# Altium integrated library Atmel Security and Smart Card ICs.IntLib: 140 symbols (part 4 of 5)
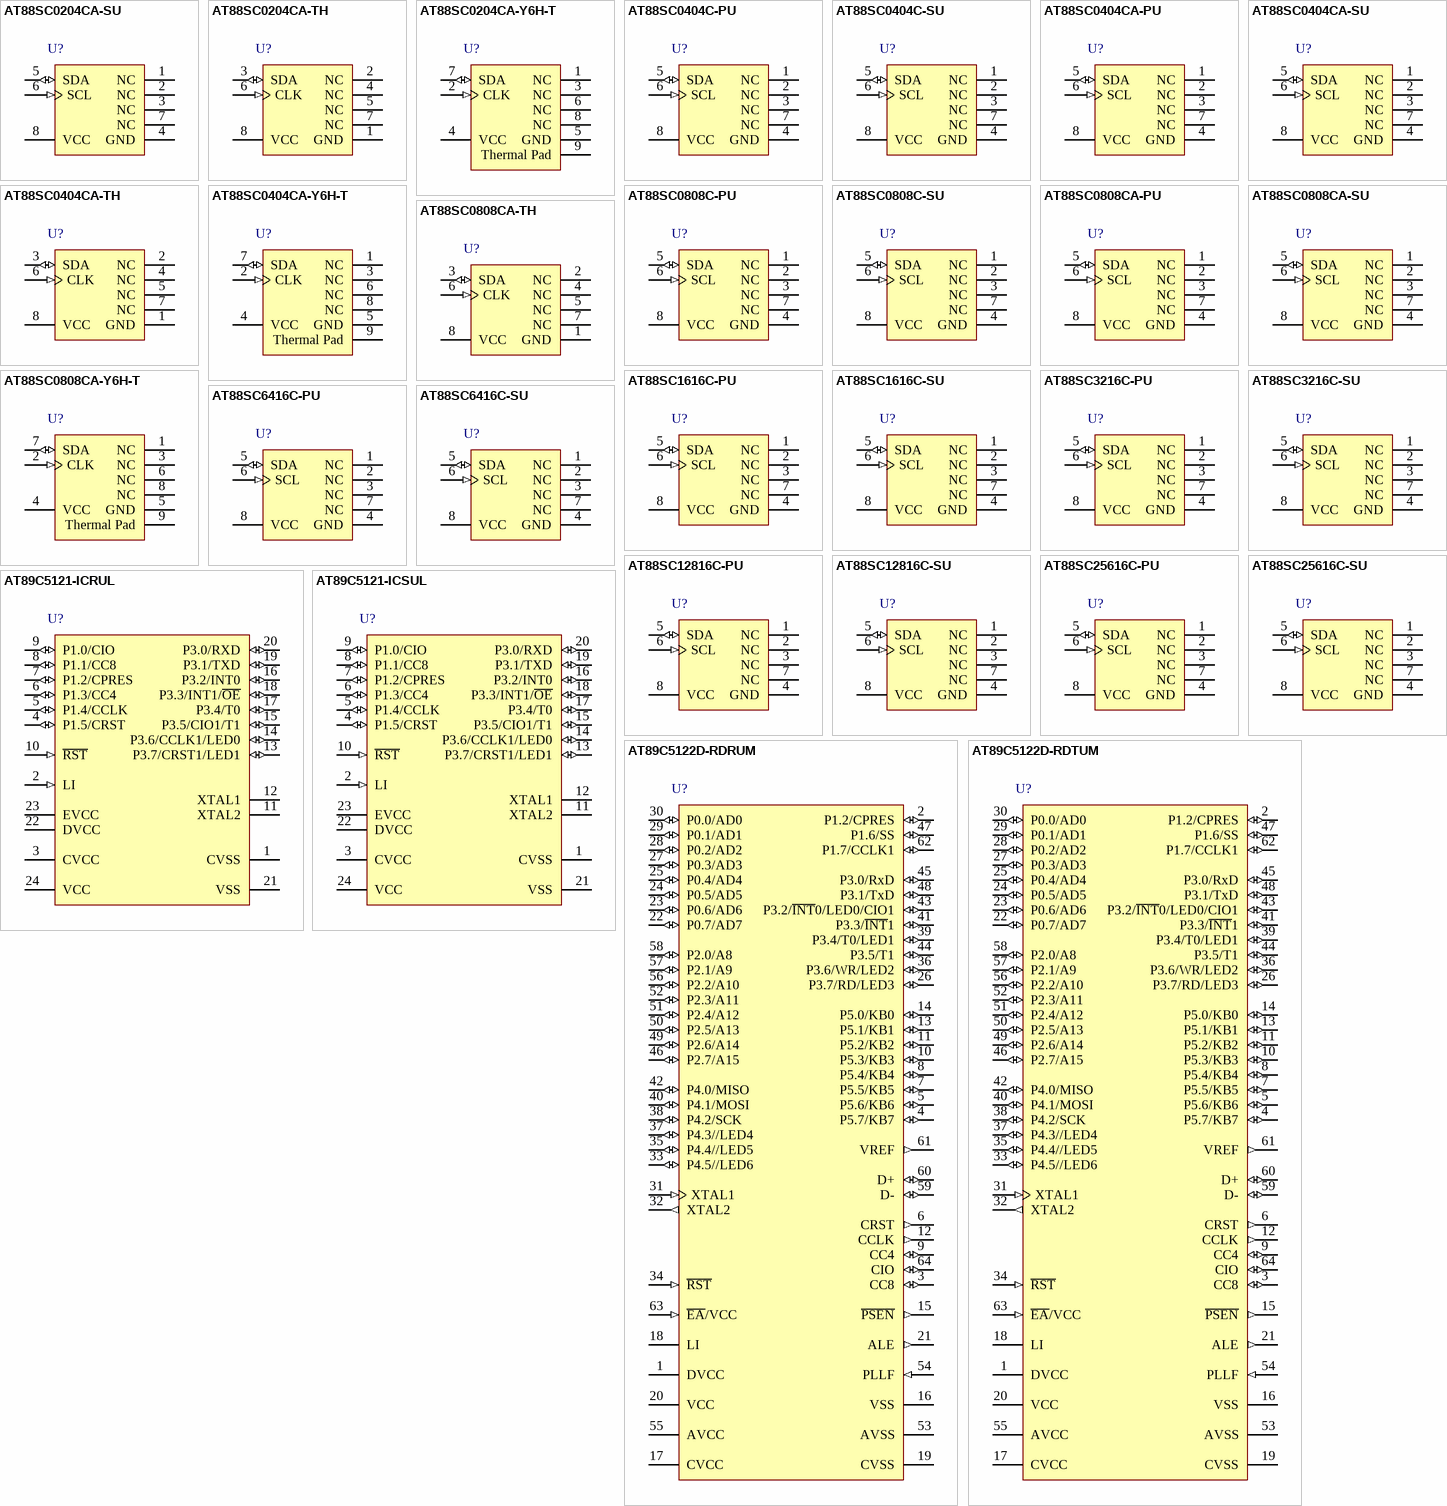
[diagram p11: symbols AT88SC0204CA-SU to AT89C5122D-RDTUM]

## AT88SC6416C-SU
designator U?
AT88SC6416C CryptoMemory®: 64-Kbit User Memory with Authentication and Encryption, Industrial (-40 to 85 degC), 8-Pin SOIC Pkg, Pb-Free; Published: 20-Sep-2010; DatasheetVersion: revK, Aug-2009; PackageVersion: revC, Mar-2005; PackageReference: 8S1; Publisher: Altium Limited; PackageDescription: 8-Lead (0.150" Wide Body), Plastic Gull Wing Small Outline (JEDEC SOIC); Supplier 1: Digi-Key; Supplier Part Number 1: AT88SC6416C-SU-ND; Supplier 2: Mouser; Supplier Part Number 2: 556-A88SC6416CSU; Code_JEDEC: MS-012-AA; Code_IPC: SOIC127P600-8; ComponentLink1Description: Manufacturer Link; ComponentLink1URL: http://www.atmel.com/products/overview_security.asp?; ComponentLink2Description: Datasheet; ComponentLink2URL: http://www.atmel.com/dyn/resources/prod_documents/doc5211.pdf; ComponentLink3Description: Atmel.com Home; ComponentLink3URL: http://www.atmel.com
footprint 8S1_N (SOIC, 8-Leads, Body 4.9x3.9mm, Pitch 1.27mm, IPC Medium Density)
footprint 8S1_L (SOIC, 8-Leads, Body 4.9x3.9mm, Pitch 1.27mm, IPC High Density)
footprint 8S1_M (SOIC, 8-Leads, Body 4.9x3.9mm, Pitch 1.27mm, IPC Low Density)
pins: 1 NC, 2 NC, 3 NC, 4 GND (power), 5 SDA (io), 6 SCL (in), 7 NC, 8 VCC (power)

## AT88SC12816C-PU
designator U?
AT88SC12816C CryptoMemory®: 128-Kbit User Memory with Authentication and Encryption, Industrial (-40 to 85 degC), 8-Pin PDIP Pkg, Pb-Free; Published: 20-Sep-2010; DatasheetVersion: revK, Aug-2009; PackageVersion: revB, Jan-2002; PackageReference: 8P3; Publisher: Altium Limited; PackageDescription: 8-Lead, 0.300" Wide Body, Plastic Dual In-Line Package (PDIP); Supplier 1: Digi-Key; Supplier Part Number 1: AT88SC12816C-PU-ND; Supplier 2: Mouser; Supplier Part Number 2: 556-A88SC12816C-PU; Code_JEDEC: MS-001-BA; ComponentLink1Description: Manufacturer Link; ComponentLink1URL: http://www.atmel.com/products/overview_security.asp?; ComponentLink2Description: Datasheet; ComponentLink2URL: http://www.atmel.com/dyn/resources/prod_documents/doc5211.pdf; ComponentLink3Description: Atmel.com Home; ComponentLink3URL: http://www.atmel.com
footprint 8P3 (DIP, 8-Leads, Row Spacing 7.62mm, Pitch 2.54mm, Body 9.59x6.61mm)
pins: 1 NC, 2 NC, 3 NC, 4 GND (power), 5 SDA (io), 6 SCL (in), 7 NC, 8 VCC (power)

## AT88SC12816C-SU
designator U?
AT88SC12816C CryptoMemory®: 128-Kbit User Memory with Authentication and Encryption, Industrial (-40 to 85 degC), 8-Pin SOIC Pkg, Pb-Free; Published: 20-Sep-2010; DatasheetVersion: revK, Aug-2009; PackageVersion: revC, Mar-2005; PackageReference: 8S1; Publisher: Altium Limited; PackageDescription: 8-Lead (0.150" Wide Body), Plastic Gull Wing Small Outline (JEDEC SOIC); Supplier 1: Digi-Key; Supplier Part Number 1: AT88SC12816C-SU-ND; Supplier 2: Mouser; Supplier Part Number 2: 556-A88SC12816CSU; Code_JEDEC: MS-012-AA; Code_IPC: SOIC127P600-8; ComponentLink1Description: Manufacturer Link; ComponentLink1URL: http://www.atmel.com/products/overview_security.asp?; ComponentLink2Description: Datasheet; ComponentLink2URL: http://www.atmel.com/dyn/resources/prod_documents/doc5211.pdf; ComponentLink3Description: Atmel.com Home; ComponentLink3URL: http://www.atmel.com
footprint 8S1_N (SOIC, 8-Leads, Body 4.9x3.9mm, Pitch 1.27mm, IPC Medium Density)
footprint 8S1_L (SOIC, 8-Leads, Body 4.9x3.9mm, Pitch 1.27mm, IPC High Density)
footprint 8S1_M (SOIC, 8-Leads, Body 4.9x3.9mm, Pitch 1.27mm, IPC Low Density)
pins: 1 NC, 2 NC, 3 NC, 4 GND (power), 5 SDA (io), 6 SCL (in), 7 NC, 8 VCC (power)

## AT88SC25616C-PU
designator U?
AT88SC25616C CryptoMemory®: 256-Kbit User Memory with Authentication and Encryption, Industrial (-40 to 85 degC), 8-Pin PDIP Pkg, Pb-Free; Published: 20-Sep-2010; DatasheetVersion: revK, Aug-2009; PackageVersion: revB, Jan-2002; PackageReference: 8P3; Publisher: Altium Limited; PackageDescription: 8-Lead, 0.300" Wide Body, Plastic Dual In-Line Package (PDIP); Supplier 1: Digi-Key; Supplier Part Number 1: AT88SC25616C-PU-ND; Supplier 2: Mouser; Supplier Part Number 2: 556-A88SC25616C-PU; Code_JEDEC: MS-001-BA; ComponentLink1Description: Manufacturer Link; ComponentLink1URL: http://www.atmel.com/products/overview_security.asp?; ComponentLink2Description: Datasheet; ComponentLink2URL: http://www.atmel.com/dyn/resources/prod_documents/doc5211.pdf; ComponentLink3Description: Atmel.com Home; ComponentLink3URL: http://www.atmel.com
footprint 8P3 (DIP, 8-Leads, Row Spacing 7.62mm, Pitch 2.54mm, Body 9.59x6.61mm)
pins: 1 NC, 2 NC, 3 NC, 4 GND (power), 5 SDA (io), 6 SCL (in), 7 NC, 8 VCC (power)

## AT88SC25616C-SU
designator U?
AT88SC25616C CryptoMemory®: 256-Kbit User Memory with Authentication and Encryption, Industrial (-40 to 85 degC), 8-Pin SOIC Pkg, Pb-Free; Published: 20-Sep-2010; DatasheetVersion: revK, Aug-2009; PackageVersion: revC, Mar-2005; PackageReference: 8S1; Publisher: Altium Limited; PackageDescription: 8-Lead (0.150" Wide Body), Plastic Gull Wing Small Outline (JEDEC SOIC); Supplier 1: Digi-Key; Supplier Part Number 1: AT88SC25616C-SU-ND; Supplier 2: Mouser; Supplier Part Number 2: 556-A88SC25616CSU; Code_JEDEC: MS-012-AA; Code_IPC: SOIC127P600-8; ComponentLink1Description: Manufacturer Link; ComponentLink1URL: http://www.atmel.com/products/overview_security.asp?; ComponentLink2Description: Datasheet; ComponentLink2URL: http://www.atmel.com/dyn/resources/prod_documents/doc5211.pdf; ComponentLink3Description: Atmel.com Home; ComponentLink3URL: http://www.atmel.com
footprint 8S1_N (SOIC, 8-Leads, Body 4.9x3.9mm, Pitch 1.27mm, IPC Medium Density)
footprint 8S1_L (SOIC, 8-Leads, Body 4.9x3.9mm, Pitch 1.27mm, IPC High Density)
footprint 8S1_M (SOIC, 8-Leads, Body 4.9x3.9mm, Pitch 1.27mm, IPC Low Density)
pins: 1 NC, 2 NC, 3 NC, 4 GND (power), 5 SDA (io), 6 SCL (in), 7 NC, 8 VCC (power)

## AT89C5121-ICRUL
designator U?
8-bit Microcontroller with Multiprotocol Smart Card Interface, Industrial, 24-Pin SOIC Pkg, Tape and Reel, Pb-Free; Published: 20-Sep-2010; DatasheetVersion: revG, July-2006; PackageVersion: 2006; PackageReference: SSOP24; Publisher: Altium Limited; PackageDescription: 24-Pin Shrink Small Outline Package, 8.2 x 5.3 mm Body, 0.65 mm Pitch; Code_JEDEC: MO-150-AG; Code_IPC: SOP65P780-24; ComponentLink1Description: Manufacturer Link; ComponentLink1URL: http://www.atmel.com/products/overview_security.asp?; ComponentLink2Description: Datasheet; ComponentLink2URL: http://www.atmel.com/dyn/resources/prod_documents/doc4164.pdf; ComponentLink3Description: Atmel.com Home; ComponentLink3URL: http://www.atmel.com
footprint SSOP24_N (SOP, 24-Leads, Body 8.2x5.3mm, Pitch 0.65mm, IPC Medium Density)
footprint SSOP24_L (SOP, 24-Leads, Body 8.2x5.3mm, Pitch 0.65mm, IPC High Density)
footprint SSOP24_M (SOP, 24-Leads, Body 8.2x5.3mm, Pitch 0.65mm, IPC Low Density)
pins: 1 CVSS (power), 2 LI (in), 3 CVCC (power), 4 P1.5/CRST (io), 5 P1.4/CCLK (io), 6 P1.3/CC4 (io), 7 P1.2/CPRES (io), 8 P1.1/CC8 (io), 9 P1.0/CIO (io), 10 ~{RST} (in), 11 XTAL2, 12 XTAL1, 13 P3.7/CRST1/LED1 (io), 14 P3.6/CCLK1/LED0 (io), 15 P3.5/CIO1/T1 (io), 16 P3.2/INT0 (io), 17 P3.4/T0 (io), 18 P3.3/INT1/~{OE} (io), 19 P3.1/TXD (io), 20 P3.0/RXD (io), 21 VSS (power), 22 DVCC (power), 23 EVCC (power), 24 VCC (power)

## AT89C5121-ICSUL
designator U?
8-bit Microcontroller with Multiprotocol Smart Card Interface, Industrial, 24-Pin SOIC Pkg, Stick, Pb-Free; Published: 20-Sep-2010; DatasheetVersion: revG, July-2006; PackageVersion: 2006; PackageReference: SSOP24; Publisher: Altium Limited; PackageDescription: 24-Pin Shrink Small Outline Package, 8.2 x 5.3 mm Body, 0.65 mm Pitch; Supplier 1: Digi-Key; Supplier Part Number 1: AT89C5121-ICSUL-ND; Supplier 2: Mouser; Supplier Part Number 2: 556-A89C5121-ICSUL; Code_JEDEC: MO-150-AG; Code_IPC: SOP65P780-24; ComponentLink1Description: Manufacturer Link; ComponentLink1URL: http://www.atmel.com/products/overview_security.asp?; ComponentLink2Description: Datasheet; ComponentLink2URL: http://www.atmel.com/dyn/resources/prod_documents/doc4164.pdf; ComponentLink3Description: Atmel.com Home; ComponentLink3URL: http://www.atmel.com
footprint SSOP24_N (SOP, 24-Leads, Body 8.2x5.3mm, Pitch 0.65mm, IPC Medium Density)
footprint SSOP24_L (SOP, 24-Leads, Body 8.2x5.3mm, Pitch 0.65mm, IPC High Density)
footprint SSOP24_M (SOP, 24-Leads, Body 8.2x5.3mm, Pitch 0.65mm, IPC Low Density)
pins: 1 CVSS (power), 2 LI (in), 3 CVCC (power), 4 P1.5/CRST (io), 5 P1.4/CCLK (io), 6 P1.3/CC4 (io), 7 P1.2/CPRES (io), 8 P1.1/CC8 (io), 9 P1.0/CIO (io), 10 ~{RST} (in), 11 XTAL2, 12 XTAL1, 13 P3.7/CRST1/LED1 (io), 14 P3.6/CCLK1/LED0 (io), 15 P3.5/CIO1/T1 (io), 16 P3.2/INT0 (io), 17 P3.4/T0 (io), 18 P3.3/INT1/~{OE} (io), 19 P3.1/TXD (io), 20 P3.0/RXD (io), 21 VSS (power), 22 DVCC (power), 23 EVCC (power), 24 VCC (power)

## AT89C5122D-RDRUM
designator U?
C51 Microcontroller with USB and Smart Card Reader Interfaces, 32K FLASH, Industrial, 64-Pin QFP Pkg, Tape and Reel and Dry Pack; Published: 20-Sep-2010; DatasheetVersion: revF, July-2008; PackageVersion: Apr-2006; PackageReference: LQFP64; Publisher: Altium Limited; PackageDescription: 64-Pin Thin Quad Flat Pack 0.5 mm Pitch; Supplier 1: Digi-Key; Supplier Part Number 1: AT89C5122D-RDRUMTR-ND; Supplier 2: Digi-Key; Supplier Part Number 2: AT89C5122D-RDRUMCT-ND; Supplier 3: Digi-Key; Supplier Part Number 3: AT89C5122D-RDRUMDKR-ND; Supplier 4: Mouser; Supplier Part Number 4: 556-A89C5122DRDRUM; Code_JEDEC: MS-026-BCD; ComponentLink1Description: Manufacturer Link; ComponentLink1URL: http://www.atmel.com/products/overview_security.asp?; ComponentLink2Description: Datasheet; ComponentLink2URL: http://www.atmel.com/dyn/resources/prod_documents/datasheet%20C5122.pdf; ComponentLink3Description: Atmel.com Home; ComponentLink3URL: http://www.atmel.com
footprint LQFP64_N (Thin QFP, 64-Leads, Body 10x10mm, Pitch 0.5mm, IPC Medium Density)
footprint LQFP64_L (Thin QFP, 64-Leads, Body 10x10mm, Pitch 0.5mm, IPC High Density)
footprint LQFP64_M (Thin QFP, 64-Leads, Body 10x10mm, Pitch 0.5mm, IPC Low Density)
pins: 1 DVCC (power), 2 P1.2/CPRES (io), 3 CC8 (io), 4 P5.7/KB7 (io), 5 P5.6/KB6 (io), 6 CRST (out), 7 P5.5/KB5 (io), 8 P5.4/KB4 (io), 9 CC4 (io), 10 P5.3/KB3 (io), 11 P5.2/KB2 (io), 12 CCLK (out), 13 P5.1/KB1 (io), 14 P5.0/KB0 (io), 15 ~{PSEN} (out), 16 VSS (power), 17 CVCC (power), 18 LI (power), 19 CVSS (power), 20 VCC (power), 21 ALE (out), 22 P0.7/AD7 (io), 23 P0.6/AD6 (io), 24 P0.5/AD5 (io), 25 P0.4/AD4 (io), 26 P3.7/RD/LED3 (io), 27 P0.3/AD3 (io), 28 P0.2/AD2 (io), 29 P0.1/AD1 (io), 30 P0.0/AD0 (io), 31 XTAL1 (in), 32 XTAL2 (out), 33 P4.5//LED6 (io), 34 ~{RST} (in), 35 P4.4//LED5 (io), 36 P3.6/WR/LED2 (io), 37 P4.3//LED4 (io), 38 P4.2/SCK (io), 39 P3.4/T0/LED1 (io), 40 P4.1/MOSI (io), 41 P3.3/~{INT}1 (io), 42 P4.0/MISO (io), 43 P3.2/~{INT}0/LED0/CIO1 (io), 44 P3.5/T1 (io), 45 P3.0/RxD (io), 46 P2.7/A15 (io), 47 P1.6/SS (io), 48 P3.1/TxD (io), 49 P2.6/A14 (io), 50 P2.5/A13 (io), 51 P2.4/A12 (io), 52 P2.3/A11 (io), 53 AVSS (power), 54 PLLF (in), 55 AVCC (power), 56 P2.2/A10 (io), 57 P2.1/A9 (io), 58 P2.0/A8 (io), 59 D- (io), 60 D+ (io), 61 VREF (out), 62 P1.7/CCLK1 (io), 63 ~{EA}/VCC (in), 64 CIO (io)

## AT89C5122D-RDTUM
designator U?
C51 Microcontroller with USB and Smart Card Reader Interfaces, 32K FLASH, Industrial, 64-Pin QFP Pkg, Tray and Dry Pack; Published: 20-Sep-2010; DatasheetVersion: revF, July-2008; PackageVersion: Apr-2006; PackageReference: LQFP64; Publisher: Altium Limited; PackageDescription: 64-Pin Thin Quad Flat Pack 0.5 mm Pitch; Supplier 1: Digi-Key; Supplier Part Number 1: AT89C5122D-RDTUM-ND; Supplier 2: Mouser; Supplier Part Number 2: 556-A89C5122DRDTUM; Code_JEDEC: MS-026-BCD; ComponentLink1Description: Manufacturer Link; ComponentLink1URL: http://www.atmel.com/products/overview_security.asp?; ComponentLink2Description: Datasheet; ComponentLink2URL: http://www.atmel.com/dyn/resources/prod_documents/datasheet%20C5122.pdf; ComponentLink3Description: Atmel.com Home; ComponentLink3URL: http://www.atmel.com
footprint LQFP64_N (Thin QFP, 64-Leads, Body 10x10mm, Pitch 0.5mm, IPC Medium Density)
footprint LQFP64_L (Thin QFP, 64-Leads, Body 10x10mm, Pitch 0.5mm, IPC High Density)
footprint LQFP64_M (Thin QFP, 64-Leads, Body 10x10mm, Pitch 0.5mm, IPC Low Density)
pins: 1 DVCC (power), 2 P1.2/CPRES (io), 3 CC8 (io), 4 P5.7/KB7 (io), 5 P5.6/KB6 (io), 6 CRST (out), 7 P5.5/KB5 (io), 8 P5.4/KB4 (io), 9 CC4 (io), 10 P5.3/KB3 (io), 11 P5.2/KB2 (io), 12 CCLK (out), 13 P5.1/KB1 (io), 14 P5.0/KB0 (io), 15 ~{PSEN} (out), 16 VSS (power), 17 CVCC (power), 18 LI (power), 19 CVSS (power), 20 VCC (power), 21 ALE (out), 22 P0.7/AD7 (io), 23 P0.6/AD6 (io), 24 P0.5/AD5 (io), 25 P0.4/AD4 (io), 26 P3.7/RD/LED3 (io), 27 P0.3/AD3 (io), 28 P0.2/AD2 (io), 29 P0.1/AD1 (io), 30 P0.0/AD0 (io), 31 XTAL1 (in), 32 XTAL2 (out), 33 P4.5//LED6 (io), 34 ~{RST} (in), 35 P4.4//LED5 (io), 36 P3.6/WR/LED2 (io), 37 P4.3//LED4 (io), 38 P4.2/SCK (io), 39 P3.4/T0/LED1 (io), 40 P4.1/MOSI (io), 41 P3.3/~{INT}1 (io), 42 P4.0/MISO (io), 43 P3.2/~{INT}0/LED0/CIO1 (io), 44 P3.5/T1 (io), 45 P3.0/RxD (io), 46 P2.7/A15 (io), 47 P1.6/SS (io), 48 P3.1/TxD (io), 49 P2.6/A14 (io), 50 P2.5/A13 (io), 51 P2.4/A12 (io), 52 P2.3/A11 (io), 53 AVSS (power), 54 PLLF (in), 55 AVCC (power), 56 P2.2/A10 (io), 57 P2.1/A9 (io), 58 P2.0/A8 (io), 59 D- (io), 60 D+ (io), 61 VREF (out), 62 P1.7/CCLK1 (io), 63 ~{EA}/VCC (in), 64 CIO (io)

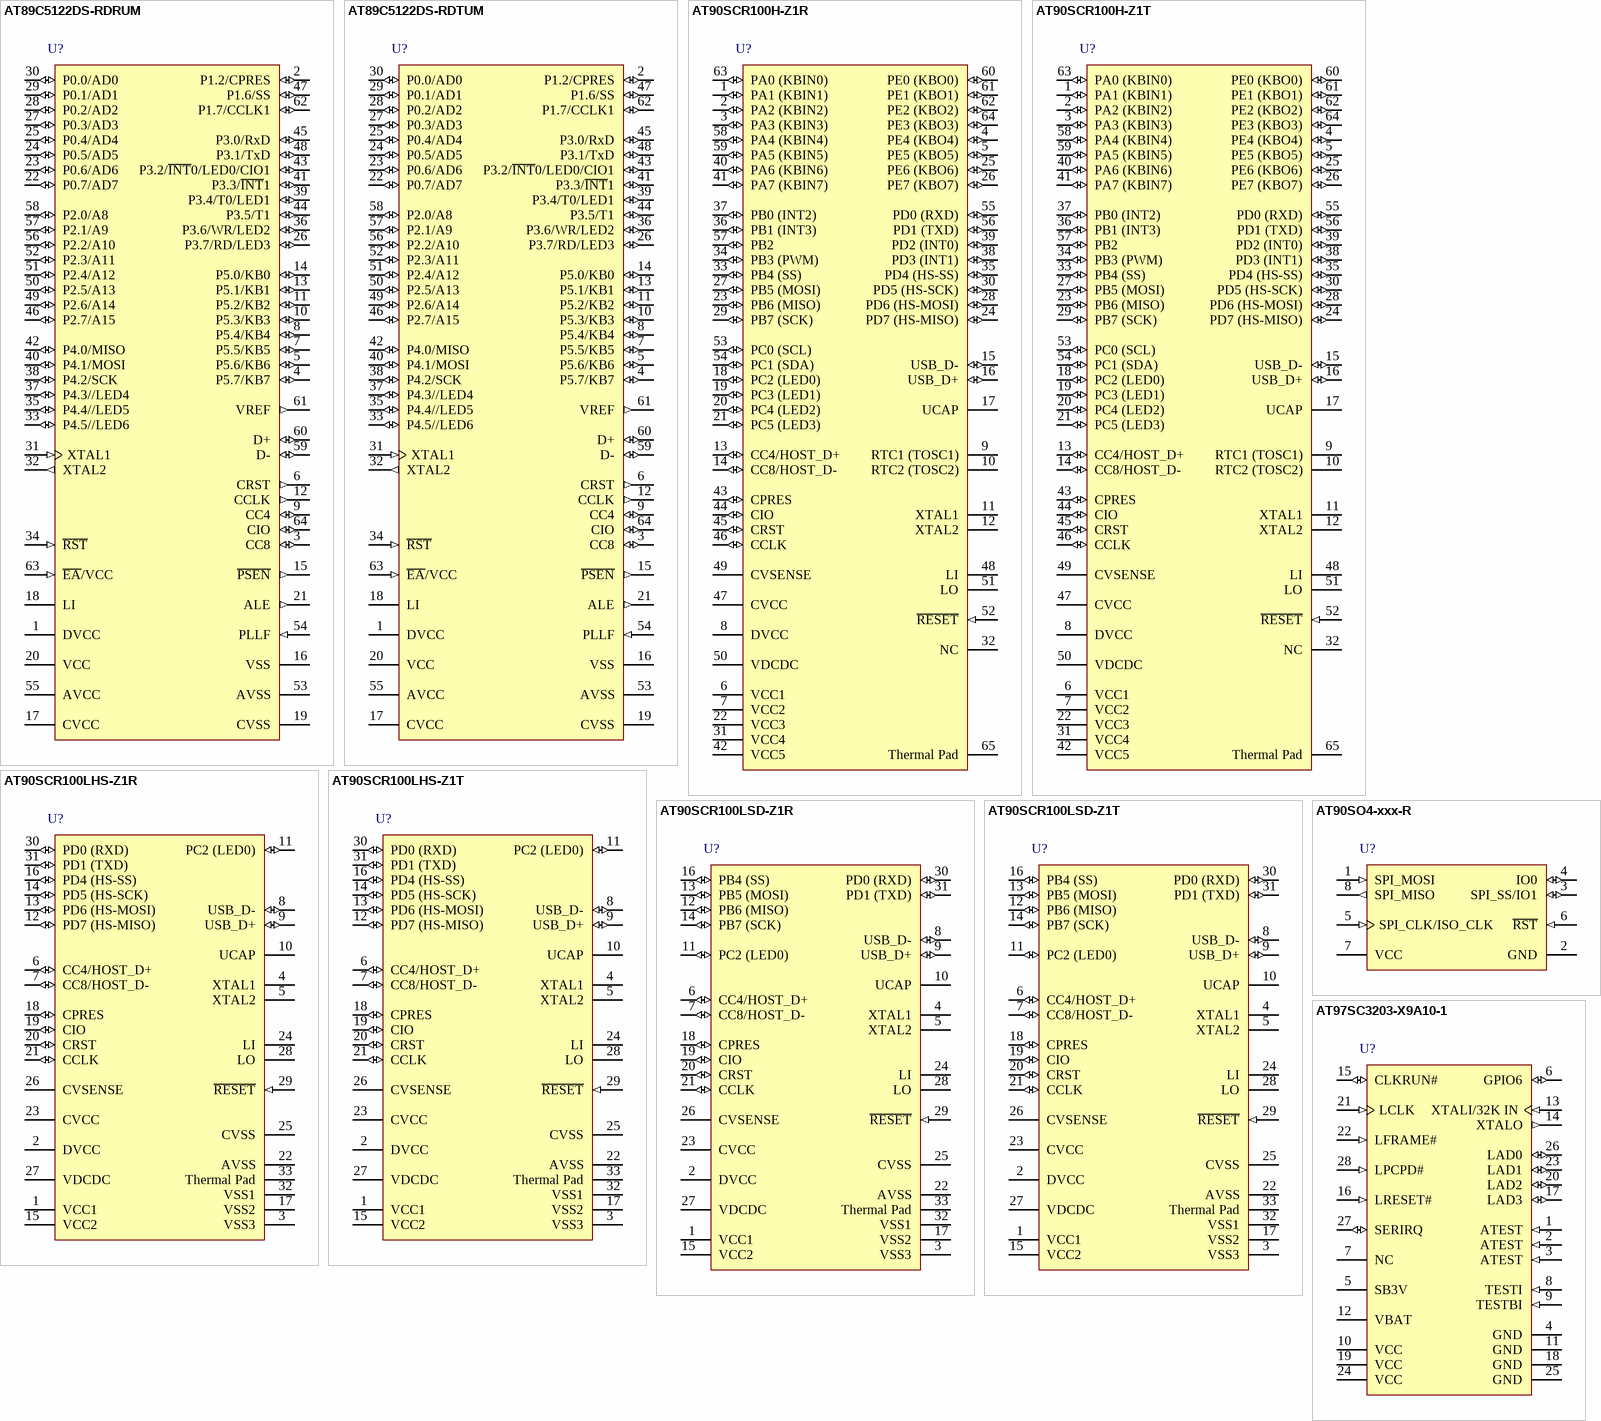
[diagram p7: symbols AT89C5122DS-RDRUM to AT97SC3203-X9A10-1]

## AT89C5122DS-RDRUM
designator U?
C51 Microcontroller with USB and Smart Card Reader Interfaces, 32K FLASH, Industrial, 64-Pin QFP Pkg, Tape and Reel and Dry Pack; Published: 20-Sep-2010; DatasheetVersion: revF, July-2008; PackageVersion: Apr-2006; PackageReference: LQFP64; Publisher: Altium Limited; PackageDescription: 64-Pin Thin Quad Flat Pack 0.5 mm Pitch; Code_JEDEC: MS-026-BCD; ComponentLink1Description: Manufacturer Link; ComponentLink1URL: http://www.atmel.com/products/overview_security.asp?; ComponentLink2Description: Datasheet; ComponentLink2URL: http://www.atmel.com/dyn/resources/prod_documents/datasheet%20C5122.pdf; ComponentLink3Description: Atmel.com Home; ComponentLink3URL: http://www.atmel.com
footprint LQFP64_N (Thin QFP, 64-Leads, Body 10x10mm, Pitch 0.5mm, IPC Medium Density)
footprint LQFP64_L (Thin QFP, 64-Leads, Body 10x10mm, Pitch 0.5mm, IPC High Density)
footprint LQFP64_M (Thin QFP, 64-Leads, Body 10x10mm, Pitch 0.5mm, IPC Low Density)
pins: 1 DVCC (power), 2 P1.2/CPRES (io), 3 CC8 (io), 4 P5.7/KB7 (io), 5 P5.6/KB6 (io), 6 CRST (out), 7 P5.5/KB5 (io), 8 P5.4/KB4 (io), 9 CC4 (io), 10 P5.3/KB3 (io), 11 P5.2/KB2 (io), 12 CCLK (out), 13 P5.1/KB1 (io), 14 P5.0/KB0 (io), 15 ~{PSEN} (out), 16 VSS (power), 17 CVCC (power), 18 LI (power), 19 CVSS (power), 20 VCC (power), 21 ALE (out), 22 P0.7/AD7 (io), 23 P0.6/AD6 (io), 24 P0.5/AD5 (io), 25 P0.4/AD4 (io), 26 P3.7/RD/LED3 (io), 27 P0.3/AD3 (io), 28 P0.2/AD2 (io), 29 P0.1/AD1 (io), 30 P0.0/AD0 (io), 31 XTAL1 (in), 32 XTAL2 (out), 33 P4.5//LED6 (io), 34 ~{RST} (in), 35 P4.4//LED5 (io), 36 P3.6/WR/LED2 (io), 37 P4.3//LED4 (io), 38 P4.2/SCK (io), 39 P3.4/T0/LED1 (io), 40 P4.1/MOSI (io), 41 P3.3/~{INT}1 (io), 42 P4.0/MISO (io), 43 P3.2/~{INT}0/LED0/CIO1 (io), 44 P3.5/T1 (io), 45 P3.0/RxD (io), 46 P2.7/A15 (io), 47 P1.6/SS (io), 48 P3.1/TxD (io), 49 P2.6/A14 (io), 50 P2.5/A13 (io), 51 P2.4/A12 (io), 52 P2.3/A11 (io), 53 AVSS (power), 54 PLLF (in), 55 AVCC (power), 56 P2.2/A10 (io), 57 P2.1/A9 (io), 58 P2.0/A8 (io), 59 D- (io), 60 D+ (io), 61 VREF (out), 62 P1.7/CCLK1 (io), 63 ~{EA}/VCC (in), 64 CIO (io)

## AT89C5122DS-RDTUM
designator U?
C51 Microcontroller with USB and Smart Card Reader Interfaces, 32K FLASH, Industrial, 64-Pin QFP Pkg, Tray and Dry Pack; Published: 20-Sep-2010; DatasheetVersion: revF, July-2008; PackageVersion: Apr-2006; PackageReference: LQFP64; Publisher: Altium Limited; PackageDescription: 64-Pin Thin Quad Flat Pack 0.5 mm Pitch; Supplier 1: Digi-Key; Supplier Part Number 1: AT89C5122DS-RDTUM-ND; Supplier 2: Mouser; Supplier Part Number 2: 556-AT89C5122DSRDTUM; Code_JEDEC: MS-026-BCD; ComponentLink1Description: Manufacturer Link; ComponentLink1URL: http://www.atmel.com/products/overview_security.asp?; ComponentLink2Description: Datasheet; ComponentLink2URL: http://www.atmel.com/dyn/resources/prod_documents/datasheet%20C5122.pdf; ComponentLink3Description: Atmel.com Home; ComponentLink3URL: http://www.atmel.com
footprint LQFP64_N (Thin QFP, 64-Leads, Body 10x10mm, Pitch 0.5mm, IPC Medium Density)
footprint LQFP64_L (Thin QFP, 64-Leads, Body 10x10mm, Pitch 0.5mm, IPC High Density)
footprint LQFP64_M (Thin QFP, 64-Leads, Body 10x10mm, Pitch 0.5mm, IPC Low Density)
pins: 1 DVCC (power), 2 P1.2/CPRES (io), 3 CC8 (io), 4 P5.7/KB7 (io), 5 P5.6/KB6 (io), 6 CRST (out), 7 P5.5/KB5 (io), 8 P5.4/KB4 (io), 9 CC4 (io), 10 P5.3/KB3 (io), 11 P5.2/KB2 (io), 12 CCLK (out), 13 P5.1/KB1 (io), 14 P5.0/KB0 (io), 15 ~{PSEN} (out), 16 VSS (power), 17 CVCC (power), 18 LI (power), 19 CVSS (power), 20 VCC (power), 21 ALE (out), 22 P0.7/AD7 (io), 23 P0.6/AD6 (io), 24 P0.5/AD5 (io), 25 P0.4/AD4 (io), 26 P3.7/RD/LED3 (io), 27 P0.3/AD3 (io), 28 P0.2/AD2 (io), 29 P0.1/AD1 (io), 30 P0.0/AD0 (io), 31 XTAL1 (in), 32 XTAL2 (out), 33 P4.5//LED6 (io), 34 ~{RST} (in), 35 P4.4//LED5 (io), 36 P3.6/WR/LED2 (io), 37 P4.3//LED4 (io), 38 P4.2/SCK (io), 39 P3.4/T0/LED1 (io), 40 P4.1/MOSI (io), 41 P3.3/~{INT}1 (io), 42 P4.0/MISO (io), 43 P3.2/~{INT}0/LED0/CIO1 (io), 44 P3.5/T1 (io), 45 P3.0/RxD (io), 46 P2.7/A15 (io), 47 P1.6/SS (io), 48 P3.1/TxD (io), 49 P2.6/A14 (io), 50 P2.5/A13 (io), 51 P2.4/A12 (io), 52 P2.3/A11 (io), 53 AVSS (power), 54 PLLF (in), 55 AVCC (power), 56 P2.2/A10 (io), 57 P2.1/A9 (io), 58 P2.0/A8 (io), 59 D- (io), 60 D+ (io), 61 VREF (out), 62 P1.7/CCLK1 (io), 63 ~{EA}/VCC (in), 64 CIO (io)

## AT90SCR100H-Z1R
designator U?
8-bit AVR® Microcontroller for Smart Card Readers, Industrial, 64-Pin QFN Pkg, Reel, Pb-Free; Published: 20-Sep-2010; DatasheetVersion: revA, Jan-2009; PackageVersion: Apr-2006; PackageReference: QFN64; Publisher: Altium Limited; PackageDescription: 64-Pin Quad Flat No-Lead 0.5 mm Pitch; Supplier 1: Digi-Key; Supplier Part Number 1: AT90SCR100H-Z1R-ND; Supplier 2: Mouser; Supplier Part Number 2: 556-AT90SCR100H-Z1R; Code_JEDEC: MO-220; ComponentLink1Description: Manufacturer Link; ComponentLink1URL: http://www.atmel.com/products/overview_security.asp?; ComponentLink2Description: Datasheet; ComponentLink2URL: http://www.atmel.com/dyn/resources/prod_documents/AT90SCR100_Datasheet.pdf; ComponentLink3Description: Atmel.com Home; ComponentLink3URL: http://www.atmel.com
footprint QFN64_N (QFN, 64-Leads, Body 9x9mm, Pitch 0.5mm, IPC Medium Density)
footprint QFN64_L (QFN, 64-Leads, Body 9x9mm, Pitch 0.5mm, IPC High Density)
footprint QFN64_M (QFN, 64-Leads, Body 9x9mm, Pitch 0.5mm, IPC Low Density)
pins: 1 PA1 (KBIN1) (io), 2 PA2 (KBIN2) (io), 3 PA3 (KBIN3) (io), 4 PE4 (KBO4) (io), 5 PE5 (KBO5) (io), 6 VCC1 (power), 7 VCC2 (power), 8 DVCC (power), 9 RTC1 (TOSC1), 10 RTC2 (TOSC2), 11 XTAL1, 12 XTAL2, 13 CC4/HOST_D+ (io), 14 CC8/HOST_D- (io), 15 USB_D- (io), 16 USB_D+ (io), 17 UCAP, 18 PC2 (LED0) (io), 19 PC3 (LED1) (io), 20 PC4 (LED2) (io), 21 PC5 (LED3) (io), 22 VCC3 (power), 23 PB6 (MISO) (io), 24 PD7 (HS-MISO) (io), 25 PE6 (KBO6) (io), 26 PE7 (KBO7) (io), 27 PB5 (MOSI) (io), 28 PD6 (HS-MOSI) (io), 29 PB7 (SCK) (io), 30 PD5 (HS-SCK) (io), 31 VCC4 (power), 32 NC, 33 PB4 (SS) (io), 34 PB3 (PWM) (io), 35 PD4 (HS-SS) (io), 36 PB1 (INT3) (io), 37 PB0 (INT2) (io), 38 PD3 (INT1) (io), 39 PD2 (INT0) (io), 40 PA6 (KBIN6) (io), 41 PA7 (KBIN7) (io), 42 VCC5 (power), 43 CPRES (io), 44 CIO (io), 45 CRST (io), 46 CCLK (io), 47 CVCC (power), 48 LI, 49 CVSENSE, 50 VDCDC (power), 51 LO, 52 ~{RESET} (in), 53 PC0 (SCL) (io), 54 PC1 (SDA) (io), 55 PD0 (RXD) (io), 56 PD1 (TXD) (io), 57 PB2 (io), 58 PA4 (KBIN4) (io), 59 PA5 (KBIN5) (io), 60 PE0 (KBO0) (io), 61 PE1 (KBO1) (io), 62 PE2 (KBO2) (io), 63 PA0 (KBIN0) (io), 64 PE3 (KBO3) (io), 65 Thermal Pad (power)

## AT90SCR100H-Z1T
designator U?
8-bit AVR® Microcontroller for Smart Card Readers, Industrial, 64-Pin QFN Pkg, Tray, Pb-Free; Published: 20-Sep-2010; DatasheetVersion: revA, Jan-2009; PackageVersion: Apr-2006; PackageReference: QFN64; Publisher: Altium Limited; PackageDescription: 64-Pin Quad Flat No-Lead 0.5 mm Pitch; Supplier 1: Digi-Key; Supplier Part Number 1: AT90SCR100H-Z1T-ND; Supplier 2: Mouser; Supplier Part Number 2: 556-AT90SCR100H-Z1T; Code_JEDEC: MO-220; ComponentLink1Description: Manufacturer Link; ComponentLink1URL: http://www.atmel.com/products/overview_security.asp?; ComponentLink2Description: Datasheet; ComponentLink2URL: http://www.atmel.com/dyn/resources/prod_documents/AT90SCR100_Datasheet.pdf; ComponentLink3Description: Atmel.com Home; ComponentLink3URL: http://www.atmel.com
footprint QFN64_N (QFN, 64-Leads, Body 9x9mm, Pitch 0.5mm, IPC Medium Density)
footprint QFN64_L (QFN, 64-Leads, Body 9x9mm, Pitch 0.5mm, IPC High Density)
footprint QFN64_M (QFN, 64-Leads, Body 9x9mm, Pitch 0.5mm, IPC Low Density)
pins: 1 PA1 (KBIN1) (io), 2 PA2 (KBIN2) (io), 3 PA3 (KBIN3) (io), 4 PE4 (KBO4) (io), 5 PE5 (KBO5) (io), 6 VCC1 (power), 7 VCC2 (power), 8 DVCC (power), 9 RTC1 (TOSC1), 10 RTC2 (TOSC2), 11 XTAL1, 12 XTAL2, 13 CC4/HOST_D+ (io), 14 CC8/HOST_D- (io), 15 USB_D- (io), 16 USB_D+ (io), 17 UCAP, 18 PC2 (LED0) (io), 19 PC3 (LED1) (io), 20 PC4 (LED2) (io), 21 PC5 (LED3) (io), 22 VCC3 (power), 23 PB6 (MISO) (io), 24 PD7 (HS-MISO) (io), 25 PE6 (KBO6) (io), 26 PE7 (KBO7) (io), 27 PB5 (MOSI) (io), 28 PD6 (HS-MOSI) (io), 29 PB7 (SCK) (io), 30 PD5 (HS-SCK) (io), 31 VCC4 (power), 32 NC, 33 PB4 (SS) (io), 34 PB3 (PWM) (io), 35 PD4 (HS-SS) (io), 36 PB1 (INT3) (io), 37 PB0 (INT2) (io), 38 PD3 (INT1) (io), 39 PD2 (INT0) (io), 40 PA6 (KBIN6) (io), 41 PA7 (KBIN7) (io), 42 VCC5 (power), 43 CPRES (io), 44 CIO (io), 45 CRST (io), 46 CCLK (io), 47 CVCC (power), 48 LI, 49 CVSENSE, 50 VDCDC (power), 51 LO, 52 ~{RESET} (in), 53 PC0 (SCL) (io), 54 PC1 (SDA) (io), 55 PD0 (RXD) (io), 56 PD1 (TXD) (io), 57 PB2 (io), 58 PA4 (KBIN4) (io), 59 PA5 (KBIN5) (io), 60 PE0 (KBO0) (io), 61 PE1 (KBO1) (io), 62 PE2 (KBO2) (io), 63 PA0 (KBIN0) (io), 64 PE3 (KBO3) (io), 65 Thermal Pad (power)

## AT90SCR100LHS-Z1R
designator U?
8-bit AVR® Microcontroller for Smart Card Readers, High-Speed SPI, Industrial, 32-Pin QFN Pkg, Reel, Pb-Free; Published: 20-Sep-2010; DatasheetVersion: revA, Jan-2009; PackageVersion: 2008; PackageReference: RQFN032_H; Publisher: Altium Limited; PackageDescription: 32-Pin Quad Flat No-Lead (QFN) Sawn,  5 x 5 x 0.9 mm Body, Pitch 0.50 mm, 3.50mm Exposed Pad; Supplier 1: Digi-Key; Supplier Part Number 1: AT90SCR100LHS-Z1R-ND; Supplier 2: Mouser; Supplier Part Number 2: 556-AT90SCR100LHSZ1R; ComponentLink1Description: Manufacturer Link; ComponentLink1URL: http://www.atmel.com/products/overview_security.asp?; ComponentLink2Description: Datasheet; ComponentLink2URL: http://www.atmel.com/dyn/resources/prod_documents/AT90SCR100_Datasheet.pdf; ComponentLink3Description: Atmel.com Home; ComponentLink3URL: http://www.atmel.com
footprint RQFN032_H_N (QFN, 32-Leads, Body 5x5mm, Pitch 0.5mm, IPC Medium Density)
footprint RQFN032_H_L (QFN, 32-Leads, Body 5x5mm, Pitch 0.5mm, IPC High Density)
footprint RQFN032_H_M (QFN, 32-Leads, Body 5x5mm, Pitch 0.5mm, IPC Low Density)
pins: 1 VCC1 (power), 2 DVCC (power), 3 VSS3 (power), 4 XTAL1, 5 XTAL2, 6 CC4/HOST_D+ (io), 7 CC8/HOST_D- (io), 8 USB_D- (io), 9 USB_D+ (io), 10 UCAP, 11 PC2 (LED0) (io), 12 PD7 (HS-MISO) (io), 13 PD6 (HS-MOSI) (io), 14 PD5 (HS-SCK) (io), 15 VCC2 (power), 16 PD4 (HS-SS) (io), 17 VSS2 (power), 18 CPRES (io), 19 CIO (io), 20 CRST (io), 21 CCLK (io), 22 AVSS (power), 23 CVCC (power), 24 LI, 25 CVSS (power), 26 CVSENSE, 27 VDCDC (power), 28 LO, 29 ~{RESET} (in), 30 PD0 (RXD) (io), 31 PD1 (TXD) (io), 32 VSS1 (power), 33 Thermal Pad (power)

## AT90SCR100LHS-Z1T
designator U?
8-bit AVR® Microcontroller for Smart Card Readers, High-Speed SPI, Industrial, 32-Pin QFN Pkg, Tray, Pb-Free; Published: 20-Sep-2010; DatasheetVersion: revA, Jan-2009; PackageVersion: 2008; PackageReference: RQFN032_H; Publisher: Altium Limited; PackageDescription: 32-Pin Quad Flat No-Lead (QFN) Sawn,  5 x 5 x 0.9 mm Body, Pitch 0.50 mm, 3.50mm Exposed Pad; Supplier 1: Digi-Key; Supplier Part Number 1: AT90SCR100LHS-Z1T-ND; Supplier 2: Mouser; Supplier Part Number 2: 556-AT90SCR100LHSZ1T; ComponentLink1Description: Manufacturer Link; ComponentLink1URL: http://www.atmel.com/products/overview_security.asp?; ComponentLink2Description: Datasheet; ComponentLink2URL: http://www.atmel.com/dyn/resources/prod_documents/AT90SCR100_Datasheet.pdf; ComponentLink3Description: Atmel.com Home; ComponentLink3URL: http://www.atmel.com
footprint RQFN032_H_N (QFN, 32-Leads, Body 5x5mm, Pitch 0.5mm, IPC Medium Density)
footprint RQFN032_H_L (QFN, 32-Leads, Body 5x5mm, Pitch 0.5mm, IPC High Density)
footprint RQFN032_H_M (QFN, 32-Leads, Body 5x5mm, Pitch 0.5mm, IPC Low Density)
pins: 1 VCC1 (power), 2 DVCC (power), 3 VSS3 (power), 4 XTAL1, 5 XTAL2, 6 CC4/HOST_D+ (io), 7 CC8/HOST_D- (io), 8 USB_D- (io), 9 USB_D+ (io), 10 UCAP, 11 PC2 (LED0) (io), 12 PD7 (HS-MISO) (io), 13 PD6 (HS-MOSI) (io), 14 PD5 (HS-SCK) (io), 15 VCC2 (power), 16 PD4 (HS-SS) (io), 17 VSS2 (power), 18 CPRES (io), 19 CIO (io), 20 CRST (io), 21 CCLK (io), 22 AVSS (power), 23 CVCC (power), 24 LI, 25 CVSS (power), 26 CVSENSE, 27 VDCDC (power), 28 LO, 29 ~{RESET} (in), 30 PD0 (RXD) (io), 31 PD1 (TXD) (io), 32 VSS1 (power), 33 Thermal Pad (power)

## AT90SCR100LSD-Z1R
designator U?
8-bit AVR® Microcontroller for Smart Card Readers, Standard SPI, Industrial, 32-Pin QFN Pkg, Reel, Pb-Free; Published: 20-Sep-2010; DatasheetVersion: revA, Jan-2009; PackageVersion: 2008; PackageReference: RQFN032_H; Publisher: Altium Limited; PackageDescription: 32-Pin Quad Flat No-Lead (QFN) Sawn,  5 x 5 x 0.9 mm Body, Pitch 0.50 mm, 3.50mm Exposed Pad; Supplier 1: Digi-Key; Supplier Part Number 1: AT90SCR100LSD-Z1R-ND; Supplier 2: Mouser; Supplier Part Number 2: 556-AT90SCR100LSDZ1R; ComponentLink1Description: Manufacturer Link; ComponentLink1URL: http://www.atmel.com/products/overview_security.asp?; ComponentLink2Description: Datasheet; ComponentLink2URL: http://www.atmel.com/dyn/resources/prod_documents/AT90SCR100_Datasheet.pdf; ComponentLink3Description: Atmel.com Home; ComponentLink3URL: http://www.atmel.com
footprint RQFN032_H_N (QFN, 32-Leads, Body 5x5mm, Pitch 0.5mm, IPC Medium Density)
footprint RQFN032_H_L (QFN, 32-Leads, Body 5x5mm, Pitch 0.5mm, IPC High Density)
footprint RQFN032_H_M (QFN, 32-Leads, Body 5x5mm, Pitch 0.5mm, IPC Low Density)
pins: 1 VCC1 (power), 2 DVCC (power), 3 VSS3 (power), 4 XTAL1, 5 XTAL2, 6 CC4/HOST_D+ (io), 7 CC8/HOST_D- (io), 8 USB_D- (io), 9 USB_D+ (io), 10 UCAP, 11 PC2 (LED0) (io), 12 PB6 (MISO) (io), 13 PB5 (MOSI) (io), 14 PB7 (SCK) (io), 15 VCC2 (power), 16 PB4 (SS) (io), 17 VSS2 (power), 18 CPRES (io), 19 CIO (io), 20 CRST (io), 21 CCLK (io), 22 AVSS (power), 23 CVCC (power), 24 LI, 25 CVSS (power), 26 CVSENSE, 27 VDCDC (power), 28 LO, 29 ~{RESET} (in), 30 PD0 (RXD) (io), 31 PD1 (TXD) (io), 32 VSS1 (power), 33 Thermal Pad (power)

## AT90SCR100LSD-Z1T
designator U?
8-bit AVR® Microcontroller for Smart Card Readers, Standard SPI, Industrial, 32-Pin QFN Pkg, Tray, Pb-Free; Published: 20-Sep-2010; DatasheetVersion: revA, Jan-2009; PackageVersion: 2008; PackageReference: RQFN032_H; Publisher: Altium Limited; PackageDescription: 32-Pin Quad Flat No-Lead (QFN) Sawn,  5 x 5 x 0.9 mm Body, Pitch 0.50 mm, 3.50mm Exposed Pad; Supplier 1: Digi-Key; Supplier Part Number 1: AT90SCR100LSD-Z1T-ND; Supplier 2: Mouser; Supplier Part Number 2: 556-AT90SCR100LSDZ1T; ComponentLink1Description: Manufacturer Link; ComponentLink1URL: http://www.atmel.com/products/overview_security.asp?; ComponentLink2Description: Datasheet; ComponentLink2URL: http://www.atmel.com/dyn/resources/prod_documents/AT90SCR100_Datasheet.pdf; ComponentLink3Description: Atmel.com Home; ComponentLink3URL: http://www.atmel.com
footprint RQFN032_H_N (QFN, 32-Leads, Body 5x5mm, Pitch 0.5mm, IPC Medium Density)
footprint RQFN032_H_L (QFN, 32-Leads, Body 5x5mm, Pitch 0.5mm, IPC High Density)
footprint RQFN032_H_M (QFN, 32-Leads, Body 5x5mm, Pitch 0.5mm, IPC Low Density)
pins: 1 VCC1 (power), 2 DVCC (power), 3 VSS3 (power), 4 XTAL1, 5 XTAL2, 6 CC4/HOST_D+ (io), 7 CC8/HOST_D- (io), 8 USB_D- (io), 9 USB_D+ (io), 10 UCAP, 11 PC2 (LED0) (io), 12 PB6 (MISO) (io), 13 PB5 (MOSI) (io), 14 PB7 (SCK) (io), 15 VCC2 (power), 16 PB4 (SS) (io), 17 VSS2 (power), 18 CPRES (io), 19 CIO (io), 20 CRST (io), 21 CCLK (io), 22 AVSS (power), 23 CVCC (power), 24 LI, 25 CVSS (power), 26 CVSENSE, 27 VDCDC (power), 28 LO, 29 ~{RESET} (in), 30 PD0 (RXD) (io), 31 PD1 (TXD) (io), 32 VSS1 (power), 33 Thermal Pad (power)

## AT90SO4-xxx-R
designator U?
Secure Microcontroller for Security Modules, 8-Pin SOIC Pkg; Published: 20-Sep-2010; DatasheetVersion: revA, Jan-2010; PackageVersion: 2009; PackageReference: T5; Publisher: Altium Limited; PackageDescription: 8-Lead, 0.208" Body, Plastic Small Outline Package; ComponentLink1Description: Manufacturer Link; ComponentLink1URL: http://www.atmel.com/products/overview_security.asp?; ComponentLink2Description: Datasheet; ComponentLink2URL: http://www.atmel.com/dyn/resources/prod_documents/AT90SO4_summary.pdf; ComponentLink3Description: Atmel.com Home; ComponentLink3URL: http://www.atmel.com
footprint T5_N (SOP, 8-Leads, Body 5.2x5.3mm, Pitch 1.27mm, IPC Medium Density)
footprint T5_L (SOP, 8-Leads, Body 5.2x5.3mm, Pitch 1.27mm, IPC High Density)
footprint T5_M (SOP, 8-Leads, Body 5.2x5.3mm, Pitch 1.27mm, IPC Low Density)
pins: 1 SPI_MOSI (in), 2 GND (power), 3 SPI_SS/IO1 (io), 4 IO0 (io), 5 SPI_CLK/ISO_CLK (in), 6 ~{RST} (in), 7 VCC (power), 8 SPI_MISO (out)

## AT97SC3203-X9A10-1
designator U?
Trusted Platform Module, Low Pin Count Interface, Commercial (0 to 70 deg C), 28-Pin TSSOP, Pb-Free; Published: 20-Sep-2010; DatasheetVersion: revD, Jan-2008; PackageVersion: revA, Jan-2002; PackageReference: 28A3; Publisher: Altium Limited; PackageDescription: 28-Pin Thin Shrink Small Outline Package, 6.1 x 9.7 mm Body, 0.65 mm Pitch (TSSOP); Supplier 1: Mouser; Supplier Part Number 1: 556-AT97SC3203X9A101; Code_JEDEC: MO-153-DB; ComponentLink1Description: Manufacturer Link; ComponentLink1URL: http://www.atmel.com/products/overview_security.asp?; ComponentLink2Description: Datasheet; ComponentLink2URL: http://www.atmel.com/dyn/resources/prod_documents/5116s.pdf; ComponentLink3Description: Atmel.com Home; ComponentLink3URL: http://www.atmel.com
footprint 28A3_N (TSOP, 28-Leads, Body 9.7x6.1mm, Pitch 0.65mm, IPC Medium Density)
footprint 28A3_L (TSOP, 28-Leads, Body 9.7x6.1mm, Pitch 0.65mm, IPC High Density)
footprint 28A3_M (TSOP, 28-Leads, Body 9.7x6.1mm, Pitch 0.65mm, IPC Low Density)
pins: 1 ATEST (in), 2 ATEST (in), 3 ATEST (in), 4 GND (power), 5 SB3V (power), 6 GPIO6 (io), 7 NC, 8 TESTI (in), 9 TESTBI (in), 10 VCC (power), 11 GND (power), 12 VBAT (power), 13 XTALI/32K IN (in), 14 XTALO (out), 15 CLKRUN# (io), 16 LRESET# (in), 17 LAD3 (io), 18 GND (power), 19 VCC (power), 20 LAD2 (io), 21 LCLK (in), 22 LFRAME# (in), 23 LAD1 (io), 24 VCC (power), 25 GND (power), 26 LAD0 (io), 27 SERIRQ (io), 28 LPCPD# (in)

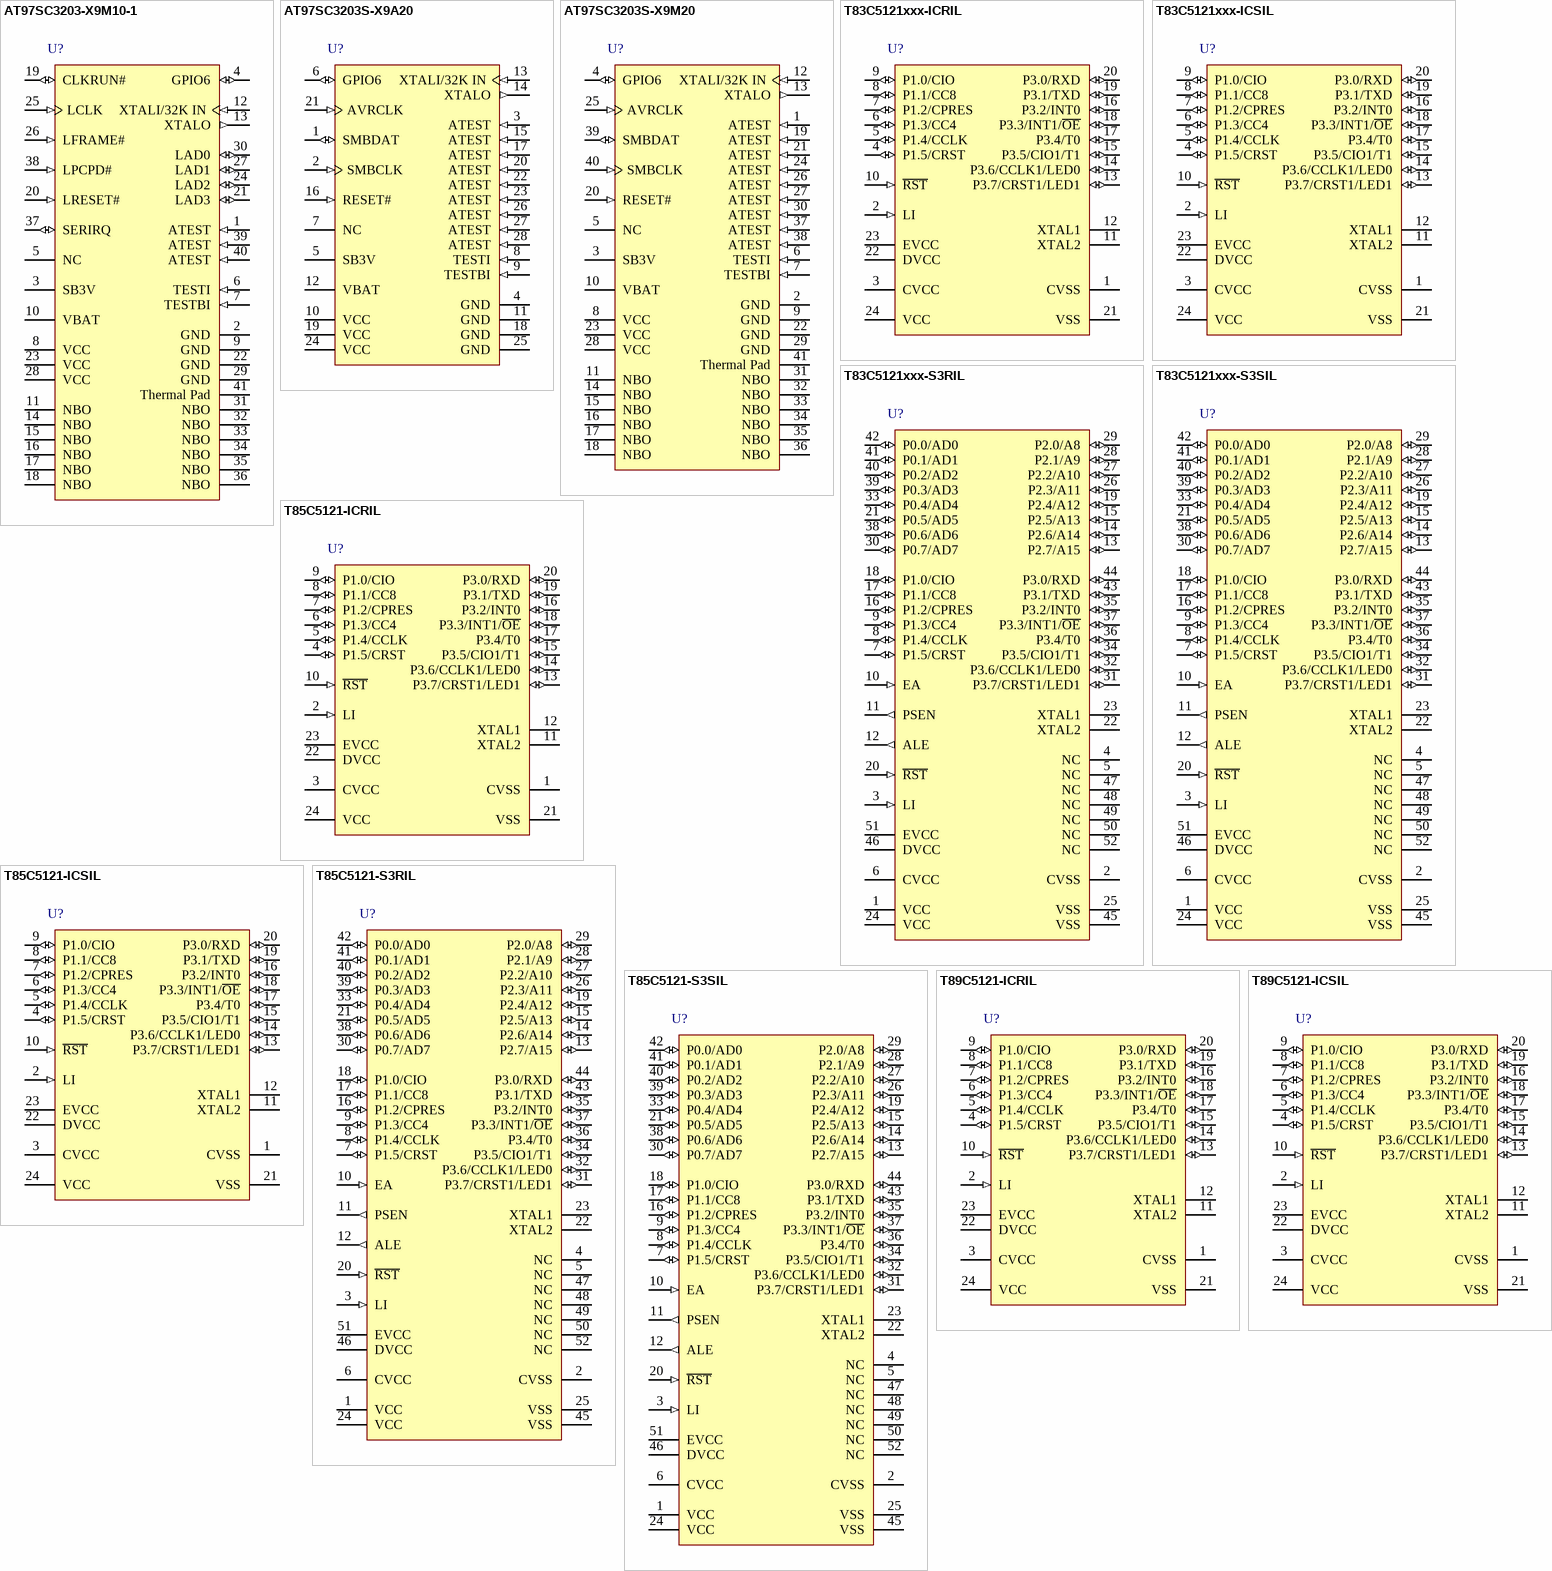
[diagram p8: symbols AT97SC3203-X9M10-1 to T89C5121-ICSIL]

## AT97SC3203-X9M10-1
designator U?
Trusted Platform Module, Low Pin Count Interface, Commercial (0 to 70 deg C), 40-Pin QFN, Pb-Free; Published: 20-Sep-2010; DatasheetVersion: revD, Jan-2008; PackageVersion: revC, Sep-2007; PackageReference: 40ML1; Publisher: Altium Limited; PackageDescription: 40-Pin Molded Quad Flat No-Lead, 6 x 6 mm Body, 0.5 mm Pitch, Punched (QFN); Supplier 1: Mouser; Supplier Part Number 1: 556-AT97SC3203X9M101; Code_JEDEC: MO-220WJJD-2; ComponentLink1Description: Manufacturer Link; ComponentLink1URL: http://www.atmel.com/products/overview_security.asp?; ComponentLink2Description: Datasheet; ComponentLink2URL: http://www.atmel.com/dyn/resources/prod_documents/5116s.pdf; ComponentLink3Description: Atmel.com Home; ComponentLink3URL: http://www.atmel.com
footprint 40ML1_N (QFN, 40-Leads, Body 6x6mm, Pitch 0.5mm, IPC Medium Density)
footprint 40ML1_L (QFN, 40-Leads, Body 6x6mm, Pitch 0.5mm, IPC High Density)
footprint 40ML1_M (QFN, 40-Leads, Body 6x6mm, Pitch 0.5mm, IPC Low Density)
pins: 1 ATEST (in), 2 GND (power), 3 SB3V (power), 4 GPIO6 (io), 5 NC, 6 TESTI (in), 7 TESTBI (in), 8 VCC (power), 9 GND (power), 10 VBAT (power), 11 NBO, 12 XTALI/32K IN (in), 13 XTALO (out), 14 NBO, 15 NBO, 16 NBO, 17 NBO, 18 NBO, 19 CLKRUN# (io), 20 LRESET# (in), 21 LAD3 (io), 22 GND (power), 23 VCC (power), 24 LAD2 (io), 25 LCLK (in), 26 LFRAME# (in), 27 LAD1 (io), 28 VCC (power), 29 GND (power), 30 LAD0 (io), 31 NBO, 32 NBO, 33 NBO, 34 NBO, 35 NBO, 36 NBO, 37 SERIRQ (io), 38 LPCPD# (in), 39 ATEST (in), 40 ATEST (in), 41 Thermal Pad (power)

## AT97SC3203S-X9A20
designator U?
Trusted Platform Module, SMBus Two-Wire Interface, Commercial (0 to 70 deg C), 28-Pin TSSOP, Pb-Free; Published: 20-Sep-2010; DatasheetVersion: revD, Jan-2008; PackageVersion: revA, Jan-2002; PackageReference: 28A3; Publisher: Altium Limited; PackageDescription: 28-Pin Thin Shrink Small Outline Package, 6.1 x 9.7 mm Body, 0.65 mm Pitch (TSSOP); Supplier 1: Mouser; Supplier Part Number 1: 556-AT97SC3203SX9A20; Code_JEDEC: MO-153-DB; ComponentLink1Description: Manufacturer Link; ComponentLink1URL: http://www.atmel.com/products/overview_security.asp?; ComponentLink2Description: Datasheet; ComponentLink2URL: http://www.atmel.com/dyn/resources/prod_documents/5132s.pdf; ComponentLink3Description: Atmel.com Home; ComponentLink3URL: http://www.atmel.com
footprint 28A3_N (TSOP, 28-Leads, Body 9.7x6.1mm, Pitch 0.65mm, IPC Medium Density)
footprint 28A3_L (TSOP, 28-Leads, Body 9.7x6.1mm, Pitch 0.65mm, IPC High Density)
footprint 28A3_M (TSOP, 28-Leads, Body 9.7x6.1mm, Pitch 0.65mm, IPC Low Density)
pins: 1 SMBDAT (io), 2 SMBCLK (in), 3 ATEST (in), 4 GND (power), 5 SB3V (power), 6 GPIO6 (io), 7 NC, 8 TESTI (in), 9 TESTBI (in), 10 VCC (power), 11 GND (power), 12 VBAT (power), 13 XTALI/32K IN (in), 14 XTALO (out), 15 ATEST (in), 16 RESET# (in), 17 ATEST (in), 18 GND (power), 19 VCC (power), 20 ATEST (in), 21 AVRCLK (in), 22 ATEST (in), 23 ATEST (in), 24 VCC (power), 25 GND (power), 26 ATEST (in), 27 ATEST (in), 28 ATEST (in)

## AT97SC3203S-X9M20
designator U?
Trusted Platform Module, SMBus Two-Wire Interface, Commercial (0 to 70 deg C), 40-Pin QFN, Pb-Free; Published: 20-Sep-2010; DatasheetVersion: revD, Jan-2008; PackageVersion: revC, Sep-2007; PackageReference: 40ML1; Publisher: Altium Limited; PackageDescription: 40-Pin Molded Quad Flat No-Lead, 6 x 6 mm Body, 0.5 mm Pitch, Punched (QFN); Supplier 1: Mouser; Supplier Part Number 1: 556-AT97SC3203SX9M20; Code_JEDEC: MO-220WJJD-2; ComponentLink1Description: Manufacturer Link; ComponentLink1URL: http://www.atmel.com/products/overview_security.asp?; ComponentLink2Description: Datasheet; ComponentLink2URL: http://www.atmel.com/dyn/resources/prod_documents/5132s.pdf; ComponentLink3Description: Atmel.com Home; ComponentLink3URL: http://www.atmel.com
footprint 40ML1_N (QFN, 40-Leads, Body 6x6mm, Pitch 0.5mm, IPC Medium Density)
footprint 40ML1_L (QFN, 40-Leads, Body 6x6mm, Pitch 0.5mm, IPC High Density)
footprint 40ML1_M (QFN, 40-Leads, Body 6x6mm, Pitch 0.5mm, IPC Low Density)
pins: 1 ATEST (in), 2 GND (power), 3 SB3V (power), 4 GPIO6 (io), 5 NC, 6 TESTI (in), 7 TESTBI (in), 8 VCC (power), 9 GND (power), 10 VBAT (power), 11 NBO, 12 XTALI/32K IN (in), 13 XTALO (out), 14 NBO, 15 NBO, 16 NBO, 17 NBO, 18 NBO, 19 ATEST (in), 20 RESET# (in), 21 ATEST (in), 22 GND (power), 23 VCC (power), 24 ATEST (in), 25 AVRCLK (in), 26 ATEST (in), 27 ATEST (in), 28 VCC (power), 29 GND (power), 30 ATEST (in), 31 NBO, 32 NBO, 33 NBO, 34 NBO, 35 NBO, 36 NBO, 37 ATEST (in), 38 ATEST (in), 39 SMBDAT (io), 40 SMBCLK (in), 41 Thermal Pad (power)

## T83C5121xxx-ICRIL
designator U?
8-bit Microcontroller with Multiprotocol Smart Card Interface, Industrial, 24-Pin SOIC Pkg, Tape and Reel; Published: 20-Sep-2010; DatasheetVersion: revG, July-2006; PackageVersion: 2006; PackageReference: SSOP24; Publisher: Altium Limited; PackageDescription: 24-Pin Shrink Small Outline Package, 8.2 x 5.3 mm Body, 0.65 mm Pitch; Code_JEDEC: MO-150-AG; Code_IPC: SOP65P780-24; ComponentLink1Description: Manufacturer Link; ComponentLink1URL: http://www.atmel.com/products/overview_security.asp?; ComponentLink2Description: Datasheet; ComponentLink2URL: http://www.atmel.com/dyn/resources/prod_documents/doc4164.pdf; ComponentLink3Description: Atmel.com Home; ComponentLink3URL: http://www.atmel.com
footprint SSOP24_N (SOP, 24-Leads, Body 8.2x5.3mm, Pitch 0.65mm, IPC Medium Density)
footprint SSOP24_L (SOP, 24-Leads, Body 8.2x5.3mm, Pitch 0.65mm, IPC High Density)
footprint SSOP24_M (SOP, 24-Leads, Body 8.2x5.3mm, Pitch 0.65mm, IPC Low Density)
pins: 1 CVSS (power), 2 LI (in), 3 CVCC (power), 4 P1.5/CRST (io), 5 P1.4/CCLK (io), 6 P1.3/CC4 (io), 7 P1.2/CPRES (io), 8 P1.1/CC8 (io), 9 P1.0/CIO (io), 10 ~{RST} (in), 11 XTAL2, 12 XTAL1, 13 P3.7/CRST1/LED1 (io), 14 P3.6/CCLK1/LED0 (io), 15 P3.5/CIO1/T1 (io), 16 P3.2/INT0 (io), 17 P3.4/T0 (io), 18 P3.3/INT1/~{OE} (io), 19 P3.1/TXD (io), 20 P3.0/RXD (io), 21 VSS (power), 22 DVCC (power), 23 EVCC (power), 24 VCC (power)

## T83C5121xxx-ICSIL
designator U?
8-bit Microcontroller with Multiprotocol Smart Card Interface, Industrial, 24-Pin SOIC Pkg, Stick; Published: 20-Sep-2010; DatasheetVersion: revG, July-2006; PackageVersion: 2006; PackageReference: SSOP24; Publisher: Altium Limited; PackageDescription: 24-Pin Shrink Small Outline Package, 8.2 x 5.3 mm Body, 0.65 mm Pitch; Code_JEDEC: MO-150-AG; Code_IPC: SOP65P780-24; ComponentLink1Description: Manufacturer Link; ComponentLink1URL: http://www.atmel.com/products/overview_security.asp?; ComponentLink2Description: Datasheet; ComponentLink2URL: http://www.atmel.com/dyn/resources/prod_documents/doc4164.pdf; ComponentLink3Description: Atmel.com Home; ComponentLink3URL: http://www.atmel.com
footprint SSOP24_N (SOP, 24-Leads, Body 8.2x5.3mm, Pitch 0.65mm, IPC Medium Density)
footprint SSOP24_L (SOP, 24-Leads, Body 8.2x5.3mm, Pitch 0.65mm, IPC High Density)
footprint SSOP24_M (SOP, 24-Leads, Body 8.2x5.3mm, Pitch 0.65mm, IPC Low Density)
pins: 1 CVSS (power), 2 LI (in), 3 CVCC (power), 4 P1.5/CRST (io), 5 P1.4/CCLK (io), 6 P1.3/CC4 (io), 7 P1.2/CPRES (io), 8 P1.1/CC8 (io), 9 P1.0/CIO (io), 10 ~{RST} (in), 11 XTAL2, 12 XTAL1, 13 P3.7/CRST1/LED1 (io), 14 P3.6/CCLK1/LED0 (io), 15 P3.5/CIO1/T1 (io), 16 P3.2/INT0 (io), 17 P3.4/T0 (io), 18 P3.3/INT1/~{OE} (io), 19 P3.1/TXD (io), 20 P3.0/RXD (io), 21 VSS (power), 22 DVCC (power), 23 EVCC (power), 24 VCC (power)

## T83C5121xxx-S3RIL
designator U?
8-bit Microcontroller with Multiprotocol Smart Card Interface, Industrial, 52-Pin LCC Pkg, Tape and Reel; Note: Contact Atmel for availability; Published: 20-Sep-2010; DatasheetVersion: revG, July-2006; PackageVersion: 2006; PackageReference: PLCC52; Publisher: Altium Limited; PackageDescription: 52-Pin Leaded Chip Carrier ,19 x 19 mm Body, 1.27 mm Pitch; Code_IPC: PLCC-52; ComponentLink1Description: Manufacturer Link; ComponentLink1URL: http://www.atmel.com/products/overview_security.asp?; ComponentLink2Description: Datasheet; ComponentLink2URL: http://www.atmel.com/dyn/resources/prod_documents/doc4164.pdf; ComponentLink3Description: Atmel.com Home; ComponentLink3URL: http://www.atmel.com
footprint PLCC52_N (Leaded Chip Carrier, 52-Leads, Body 19x19mm, Pitch 1.27mm, IPC Medium Density)
footprint PLCC52_L (Leaded Chip Carrier, 52-Leads, Body 19x19mm, Pitch 1.27mm, IPC High Density)
footprint PLCC52_M (Leaded Chip Carrier, 52-Leads, Body 19x19mm, Pitch 1.27mm, IPC Low Density)
pins: 1 VCC (power), 2 CVSS (power), 3 LI (in), 4 NC, 5 NC, 6 CVCC (power), 7 P1.5/CRST (io), 8 P1.4/CCLK (io), 9 P1.3/CC4 (io), 10 EA (in), 11 PSEN (out), 12 ALE (out), 13 P2.7/A15 (io), 14 P2.6/A14 (io), 15 P2.5/A13 (io), 16 P1.2/CPRES (io), 17 P1.1/CC8 (io), 18 P1.0/CIO (io), 19 P2.4/A12 (io), 20 ~{RST} (in), 21 P0.5/AD5 (io), 22 XTAL2, 23 XTAL1, 24 VCC (power), 25 VSS (power), 26 P2.3/A11 (io), 27 P2.2/A10 (io), 28 P2.1/A9 (io), 29 P2.0/A8 (io), 30 P0.7/AD7 (io), 31 P3.7/CRST1/LED1 (io), 32 P3.6/CCLK1/LED0 (io), 33 P0.4/AD4 (io), 34 P3.5/CIO1/T1 (io), 35 P3.2/INT0 (io), 36 P3.4/T0 (io), 37 P3.3/INT1/~{OE} (io), 38 P0.6/AD6 (io), 39 P0.3/AD3 (io), 40 P0.2/AD2 (io), 41 P0.1/AD1 (io), 42 P0.0/AD0 (io), 43 P3.1/TXD (io), 44 P3.0/RXD (io), 45 VSS (power), 46 DVCC (power), 47 NC, 48 NC, 49 NC, 50 NC, 51 EVCC (power), 52 NC

## T83C5121xxx-S3SIL
designator U?
8-bit Microcontroller with Multiprotocol Smart Card Interface, Industrial, 52-Pin LCC Pkg, Stick; Note: Contact Atmel for availability; Published: 20-Sep-2010; DatasheetVersion: revG, July-2006; PackageVersion: 2006; PackageReference: PLCC52; Publisher: Altium Limited; PackageDescription: 52-Pin Leaded Chip Carrier ,19 x 19 mm Body, 1.27 mm Pitch; Code_IPC: PLCC-52; ComponentLink1Description: Manufacturer Link; ComponentLink1URL: http://www.atmel.com/products/overview_security.asp?; ComponentLink2Description: Datasheet; ComponentLink2URL: http://www.atmel.com/dyn/resources/prod_documents/doc4164.pdf; ComponentLink3Description: Atmel.com Home; ComponentLink3URL: http://www.atmel.com
footprint PLCC52_N (Leaded Chip Carrier, 52-Leads, Body 19x19mm, Pitch 1.27mm, IPC Medium Density)
footprint PLCC52_L (Leaded Chip Carrier, 52-Leads, Body 19x19mm, Pitch 1.27mm, IPC High Density)
footprint PLCC52_M (Leaded Chip Carrier, 52-Leads, Body 19x19mm, Pitch 1.27mm, IPC Low Density)
pins: 1 VCC (power), 2 CVSS (power), 3 LI (in), 4 NC, 5 NC, 6 CVCC (power), 7 P1.5/CRST (io), 8 P1.4/CCLK (io), 9 P1.3/CC4 (io), 10 EA (in), 11 PSEN (out), 12 ALE (out), 13 P2.7/A15 (io), 14 P2.6/A14 (io), 15 P2.5/A13 (io), 16 P1.2/CPRES (io), 17 P1.1/CC8 (io), 18 P1.0/CIO (io), 19 P2.4/A12 (io), 20 ~{RST} (in), 21 P0.5/AD5 (io), 22 XTAL2, 23 XTAL1, 24 VCC (power), 25 VSS (power), 26 P2.3/A11 (io), 27 P2.2/A10 (io), 28 P2.1/A9 (io), 29 P2.0/A8 (io), 30 P0.7/AD7 (io), 31 P3.7/CRST1/LED1 (io), 32 P3.6/CCLK1/LED0 (io), 33 P0.4/AD4 (io), 34 P3.5/CIO1/T1 (io), 35 P3.2/INT0 (io), 36 P3.4/T0 (io), 37 P3.3/INT1/~{OE} (io), 38 P0.6/AD6 (io), 39 P0.3/AD3 (io), 40 P0.2/AD2 (io), 41 P0.1/AD1 (io), 42 P0.0/AD0 (io), 43 P3.1/TXD (io), 44 P3.0/RXD (io), 45 VSS (power), 46 DVCC (power), 47 NC, 48 NC, 49 NC, 50 NC, 51 EVCC (power), 52 NC

## T85C5121-ICRIL
designator U?
8-bit Microcontroller with Multiprotocol Smart Card Interface, Industrial, 24-Pin SOIC Pkg, Tape and Reel; Published: 20-Sep-2010; DatasheetVersion: revG, July-2006; PackageVersion: 2006; PackageReference: SSOP24; Publisher: Altium Limited; PackageDescription: 24-Pin Shrink Small Outline Package, 8.2 x 5.3 mm Body, 0.65 mm Pitch; Code_JEDEC: MO-150-AG; Code_IPC: SOP65P780-24; ComponentLink1Description: Manufacturer Link; ComponentLink1URL: http://www.atmel.com/products/overview_security.asp?; ComponentLink2Description: Datasheet; ComponentLink2URL: http://www.atmel.com/dyn/resources/prod_documents/doc4164.pdf; ComponentLink3Description: Atmel.com Home; ComponentLink3URL: http://www.atmel.com
footprint SSOP24_N (SOP, 24-Leads, Body 8.2x5.3mm, Pitch 0.65mm, IPC Medium Density)
footprint SSOP24_L (SOP, 24-Leads, Body 8.2x5.3mm, Pitch 0.65mm, IPC High Density)
footprint SSOP24_M (SOP, 24-Leads, Body 8.2x5.3mm, Pitch 0.65mm, IPC Low Density)
pins: 1 CVSS (power), 2 LI (in), 3 CVCC (power), 4 P1.5/CRST (io), 5 P1.4/CCLK (io), 6 P1.3/CC4 (io), 7 P1.2/CPRES (io), 8 P1.1/CC8 (io), 9 P1.0/CIO (io), 10 ~{RST} (in), 11 XTAL2, 12 XTAL1, 13 P3.7/CRST1/LED1 (io), 14 P3.6/CCLK1/LED0 (io), 15 P3.5/CIO1/T1 (io), 16 P3.2/INT0 (io), 17 P3.4/T0 (io), 18 P3.3/INT1/~{OE} (io), 19 P3.1/TXD (io), 20 P3.0/RXD (io), 21 VSS (power), 22 DVCC (power), 23 EVCC (power), 24 VCC (power)

## T85C5121-ICSIL
designator U?
8-bit Microcontroller with Multiprotocol Smart Card Interface, Industrial, 24-Pin SOIC Pkg, Stick; Published: 20-Sep-2010; DatasheetVersion: revG, July-2006; PackageVersion: 2006; PackageReference: SSOP24; Publisher: Altium Limited; PackageDescription: 24-Pin Shrink Small Outline Package, 8.2 x 5.3 mm Body, 0.65 mm Pitch; Supplier 1: Digi-Key; Supplier Part Number 1: T85C5121-ICSIL-ND; Code_JEDEC: MO-150-AG; Code_IPC: SOP65P780-24; ComponentLink1Description: Manufacturer Link; ComponentLink1URL: http://www.atmel.com/products/overview_security.asp?; ComponentLink2Description: Datasheet; ComponentLink2URL: http://www.atmel.com/dyn/resources/prod_documents/doc4164.pdf; ComponentLink3Description: Atmel.com Home; ComponentLink3URL: http://www.atmel.com
footprint SSOP24_N (SOP, 24-Leads, Body 8.2x5.3mm, Pitch 0.65mm, IPC Medium Density)
footprint SSOP24_L (SOP, 24-Leads, Body 8.2x5.3mm, Pitch 0.65mm, IPC High Density)
footprint SSOP24_M (SOP, 24-Leads, Body 8.2x5.3mm, Pitch 0.65mm, IPC Low Density)
pins: 1 CVSS (power), 2 LI (in), 3 CVCC (power), 4 P1.5/CRST (io), 5 P1.4/CCLK (io), 6 P1.3/CC4 (io), 7 P1.2/CPRES (io), 8 P1.1/CC8 (io), 9 P1.0/CIO (io), 10 ~{RST} (in), 11 XTAL2, 12 XTAL1, 13 P3.7/CRST1/LED1 (io), 14 P3.6/CCLK1/LED0 (io), 15 P3.5/CIO1/T1 (io), 16 P3.2/INT0 (io), 17 P3.4/T0 (io), 18 P3.3/INT1/~{OE} (io), 19 P3.1/TXD (io), 20 P3.0/RXD (io), 21 VSS (power), 22 DVCC (power), 23 EVCC (power), 24 VCC (power)

## T85C5121-S3RIL
designator U?
8-bit Microcontroller with Multiprotocol Smart Card Interface, Industrial, 52-Pin LCC Pkg, Tape and Reel; Published: 20-Sep-2010; DatasheetVersion: revG, July-2006; PackageVersion: 2006; PackageReference: PLCC52; Publisher: Altium Limited; PackageDescription: 52-Pin Leaded Chip Carrier ,19 x 19 mm Body, 1.27 mm Pitch; Code_IPC: PLCC-52; ComponentLink1Description: Manufacturer Link; ComponentLink1URL: http://www.atmel.com/products/overview_security.asp?; ComponentLink2Description: Datasheet; ComponentLink2URL: http://www.atmel.com/dyn/resources/prod_documents/doc4164.pdf; ComponentLink3Description: Atmel.com Home; ComponentLink3URL: http://www.atmel.com
footprint PLCC52_N (Leaded Chip Carrier, 52-Leads, Body 19x19mm, Pitch 1.27mm, IPC Medium Density)
footprint PLCC52_L (Leaded Chip Carrier, 52-Leads, Body 19x19mm, Pitch 1.27mm, IPC High Density)
footprint PLCC52_M (Leaded Chip Carrier, 52-Leads, Body 19x19mm, Pitch 1.27mm, IPC Low Density)
pins: 1 VCC (power), 2 CVSS (power), 3 LI (in), 4 NC, 5 NC, 6 CVCC (power), 7 P1.5/CRST (io), 8 P1.4/CCLK (io), 9 P1.3/CC4 (io), 10 EA (in), 11 PSEN (out), 12 ALE (out), 13 P2.7/A15 (io), 14 P2.6/A14 (io), 15 P2.5/A13 (io), 16 P1.2/CPRES (io), 17 P1.1/CC8 (io), 18 P1.0/CIO (io), 19 P2.4/A12 (io), 20 ~{RST} (in), 21 P0.5/AD5 (io), 22 XTAL2, 23 XTAL1, 24 VCC (power), 25 VSS (power), 26 P2.3/A11 (io), 27 P2.2/A10 (io), 28 P2.1/A9 (io), 29 P2.0/A8 (io), 30 P0.7/AD7 (io), 31 P3.7/CRST1/LED1 (io), 32 P3.6/CCLK1/LED0 (io), 33 P0.4/AD4 (io), 34 P3.5/CIO1/T1 (io), 35 P3.2/INT0 (io), 36 P3.4/T0 (io), 37 P3.3/INT1/~{OE} (io), 38 P0.6/AD6 (io), 39 P0.3/AD3 (io), 40 P0.2/AD2 (io), 41 P0.1/AD1 (io), 42 P0.0/AD0 (io), 43 P3.1/TXD (io), 44 P3.0/RXD (io), 45 VSS (power), 46 DVCC (power), 47 NC, 48 NC, 49 NC, 50 NC, 51 EVCC (power), 52 NC

## T85C5121-S3SIL
designator U?
8-bit Microcontroller with Multiprotocol Smart Card Interface, Industrial, 52-Pin LCC Pkg, Stick; Published: 20-Sep-2010; DatasheetVersion: revG, July-2006; PackageVersion: 2006; PackageReference: PLCC52; Publisher: Altium Limited; PackageDescription: 52-Pin Leaded Chip Carrier ,19 x 19 mm Body, 1.27 mm Pitch; Supplier 1: Digi-Key; Supplier Part Number 1: T85C5121-S3SIL-ND; Code_IPC: PLCC-52; ComponentLink1Description: Manufacturer Link; ComponentLink1URL: http://www.atmel.com/products/overview_security.asp?; ComponentLink2Description: Datasheet; ComponentLink2URL: http://www.atmel.com/dyn/resources/prod_documents/doc4164.pdf; ComponentLink3Description: Atmel.com Home; ComponentLink3URL: http://www.atmel.com
footprint PLCC52_N (Leaded Chip Carrier, 52-Leads, Body 19x19mm, Pitch 1.27mm, IPC Medium Density)
footprint PLCC52_L (Leaded Chip Carrier, 52-Leads, Body 19x19mm, Pitch 1.27mm, IPC High Density)
footprint PLCC52_M (Leaded Chip Carrier, 52-Leads, Body 19x19mm, Pitch 1.27mm, IPC Low Density)
pins: 1 VCC (power), 2 CVSS (power), 3 LI (in), 4 NC, 5 NC, 6 CVCC (power), 7 P1.5/CRST (io), 8 P1.4/CCLK (io), 9 P1.3/CC4 (io), 10 EA (in), 11 PSEN (out), 12 ALE (out), 13 P2.7/A15 (io), 14 P2.6/A14 (io), 15 P2.5/A13 (io), 16 P1.2/CPRES (io), 17 P1.1/CC8 (io), 18 P1.0/CIO (io), 19 P2.4/A12 (io), 20 ~{RST} (in), 21 P0.5/AD5 (io), 22 XTAL2, 23 XTAL1, 24 VCC (power), 25 VSS (power), 26 P2.3/A11 (io), 27 P2.2/A10 (io), 28 P2.1/A9 (io), 29 P2.0/A8 (io), 30 P0.7/AD7 (io), 31 P3.7/CRST1/LED1 (io), 32 P3.6/CCLK1/LED0 (io), 33 P0.4/AD4 (io), 34 P3.5/CIO1/T1 (io), 35 P3.2/INT0 (io), 36 P3.4/T0 (io), 37 P3.3/INT1/~{OE} (io), 38 P0.6/AD6 (io), 39 P0.3/AD3 (io), 40 P0.2/AD2 (io), 41 P0.1/AD1 (io), 42 P0.0/AD0 (io), 43 P3.1/TXD (io), 44 P3.0/RXD (io), 45 VSS (power), 46 DVCC (power), 47 NC, 48 NC, 49 NC, 50 NC, 51 EVCC (power), 52 NC